# EAGLE library part UCC28881 (library My_TI)
UCC28881 700-V, 225-mA Low Quiescent Current Off-Line Converter. • Integrated 14-Ω, 700-V Power MOSFET • Supports Buck, Buck-Boost and Flyback Topologies Datasheet <http://www.ti.com/lit/ds/symlink/ucc28881.pdf>
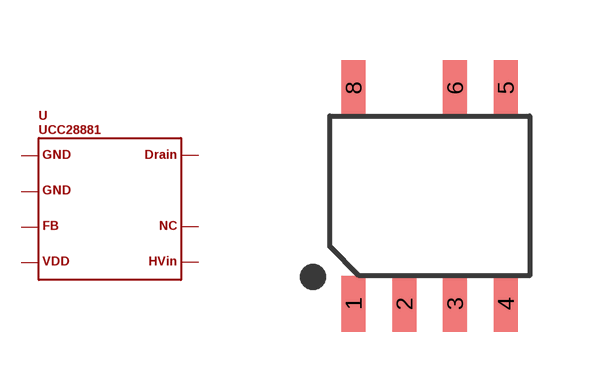
[diagram p51: symbol with the pads of SOIC8-1.27-5X4MM_7PIN; footprint SOIC8-1.27-5X4MM_7PIN]

Designator prefix -

## UCC28881  [SOIC8-1.27-5X4MM_7PIN]
1  P$1
2  P$2
3  P$3
4  P$4
5  P$5
6  P$6
8  P$8

## Footprint SOIC8-1.27-5X4MM_7PIN (pad centres in mm)
smd 0.6 x 1.4: 1 -1.905,-2.7; 2 -0.635,-2.7; 3 0.635,-2.7; 4 1.905,-2.7; 5 1.905,2.7; 6 0.635,2.7; 8 -1.905,2.7